# EAGLE library part LM4811LD (library LM4811LD)
Headphone Amplifier Source: Datasheet
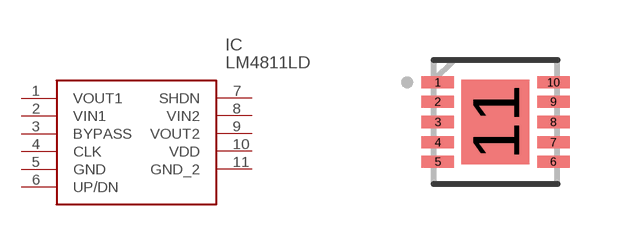
[diagram p0: symbol with the pads of DFN300X300X80-11N; footprint DFN300X300X80-11N]

Designator prefix IC

## LM4811LD (Arrow_Part_Number: LM4811LD; Description: Headphone Amplifier; Height: mm; Manufacturer_Name: Texas Instruments; Manufacturer_Part_Number: LM4811LD)  [DFN300X300X80-11N]
1  VOUT1
2  VIN1
3  BYPASS
4  CLK
5  GND
6  UP/DN
7  SHDN
8  VIN2
9  VOUT2
10  VDD
11  GND_2

## Footprint DFN300X300X80-11N (pad centres in mm)
DFN300X300X80-11N
smd 0.813 x 0.305: 1 -1.448,0.991; 2 -1.448,0.508; 3 -1.448,0; 4 -1.448,-0.508; 5 -1.448,-0.991; 6 1.448,-0.991; 7 1.448,-0.508; 8 1.448,0; 9 1.448,0.508; 10 1.448,0.991
smd 1.702 x 2.108: 11 0,0